# EAGLE library part 62201421821 (library Wuerth_Elektronik_eiCan_Pin_&_Socked_Headers_v1.3)
WR-PHD 1.27mm Dual Socket Header, 14 Pins
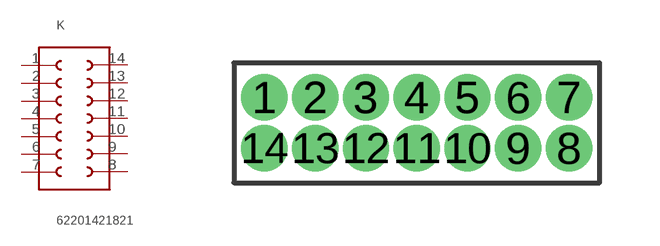
[diagram p340: symbol with the pads of 62201421821; footprint 62201421821]

Designator prefix K

## 62201421821  [62201421821]
1  1  pas
2  2  pas
3  3  pas
4  4  pas
5  5  pas
6  6  pas
7  7  pas
8  8  pas
9  9  pas
10  10  pas
11  11  pas
12  12  pas
13  13  pas
14  14  pas

## Footprint 62201421821 (pad centres in mm)
WR-PHD 1.27mm Dual Socket Header, 14 Pins
drill 0.65 round: 1 -3.81,0.635; 2 -2.54,0.635; 3 -1.27,0.635; 4 0,0.635; 5 1.27,0.635; 6 2.54,0.635; 7 3.81,0.635; 8 3.81,-0.635; 9 2.54,-0.635; 10 1.27,-0.635; 11 0,-0.635; 12 -1.27,-0.635; 13 -2.54,-0.635; 14 -3.81,-0.635